# Altium footprint library Updated_PCB.PcbLib: 9 footprints
Each footprint in its own frame and in the unit in brackets; x right, y up, seen from the top. Pads: shape width x height; smd on the part's side, far side on the other; paste and mask are expansions set on the pad; w line width, h text height; cw(c..) or ccw(c..) is an arc to the next point about the centre after c.
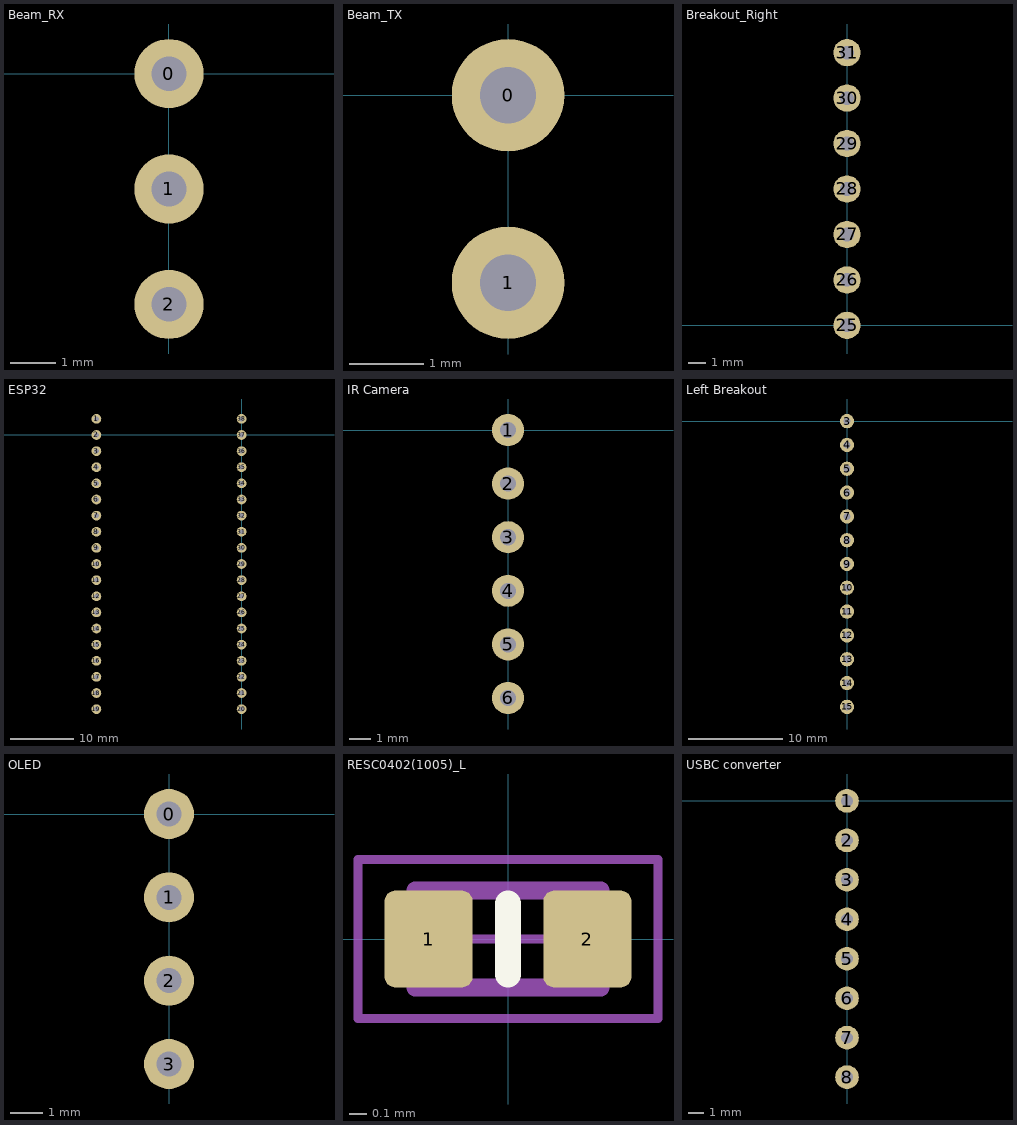
[diagram p0: the footprints below, top view; thin cyan lines are the x and y axes]

## Beam_RX [mil]
pads (3):
  round 60 hole 30: 0(0,0) 1(0,-100) 2(0,-200)

## Beam_TX [mil]
pads (2):
  round 60 hole 30: 0(0,0) 1(0,-100)

## Breakout_Right [mil]
pads (7):
  round 60 hole 30: 25(0,0) 26(0,100) 27(0,200) 28(0,300) 29(0,400) 30(0,500) 31(0,600)

## ESP32 [mil] "initial footprint design for the ESP32"
pads (38):
  round 60 hole 30: 1(-900,100) 2(-900,0) 3(-900,-100) 4(-900,-200) 5(-900,-300) 6(-900,-400) 7(-900,-500) 8(-900,-600) 9(-900,-700) 10(-900,-800) 11(-900,-900) 12(-900,-1000) 13(-900,-1100) 14(-900,-1200) 15(-900,-1300) 16(-900,-1400) 17(-900,-1500) 18(-900,-1600) 19(-900,-1700) 20(0,-1700) 21(0,-1600) 22(0,-1500) 23(0,-1400) 24(0,-1300) 25(0,-1200) 26(0,-1100) 27(0,-1000) 28(0,-900) 29(0,-800) 30(0,-700) 31(0,-600) 32(0,-500) 33(0,-400) 34(0,-300) 35(0,-200) 36(0,-100) 37(0,0) 38(0,100)

## IR Camera [mil]
pads (6):
  round 60 hole 30: 1(0,0) 2(0,-100) 3(0,-200) 4(0,-300) 5(0,-400) 6(0,-500)

## Left Breakout [mil] "left breakout bar for wiring"
pads (13):
  round 60 hole 30: 3(0,0) 4(0,-100) 5(0,-200) 6(0,-300) 7(0,-400) 8(0,-500) 9(0,-600) 10(0,-700) 11(0,-800) 12(0,-900) 13(0,-1000) 14(0,-1100) 15(0,-1200)

## OLED [mil]
pads (4):
  round 60 hole 30: 0(0,0) 1(0,-100) 2(0,-200) 3(0,-300)

## RESC0402(1005)_L [mm] "Chip Resistor, Body 1.0x0.5mm, IPC High Density"
height 0.4
pads (2):
  rrect25% 0.5x0.55 smd: 1(-0.45,0) 2(0.45,0)
Top Overlay:
  lines w0.15: 0,-0.2 0,0.2
Mechanical 13:
  lines w0.1: -0.525,-0.275 0.525,-0.275 0.525,0.275 -0.525,0.275 -0.525,-0.275
Mechanical 15:
  lines w0.05: -0.275,0 0.275,0 ; 0,-0.275 0,0.275 ; -0.85,-0.45 0.85,-0.45 0.85,0.45 -0.85,0.45 -0.85,-0.45
Mechanical 19:
  text ".Designator" at -1.27,-0.127 h0.6
3D body "RES0402.step": height 0.3, standoff 0, extent -0.5,-0.25 0.5,0.25

## USBC converter [mil]
pads (8):
  round 60 hole 30: 1(0,0) 2(0,-100) 3(0,-200) 4(0,-300) 5(0,-400) 6(0,-500) 7(0,-600) 8(0,-700)